# Altium schematic symbol library TimeCard_NIC.SCHLIB: 121 symbols (part 1 of 2)
Pins are listed as number, name and electrical type; pins without a type are passive.

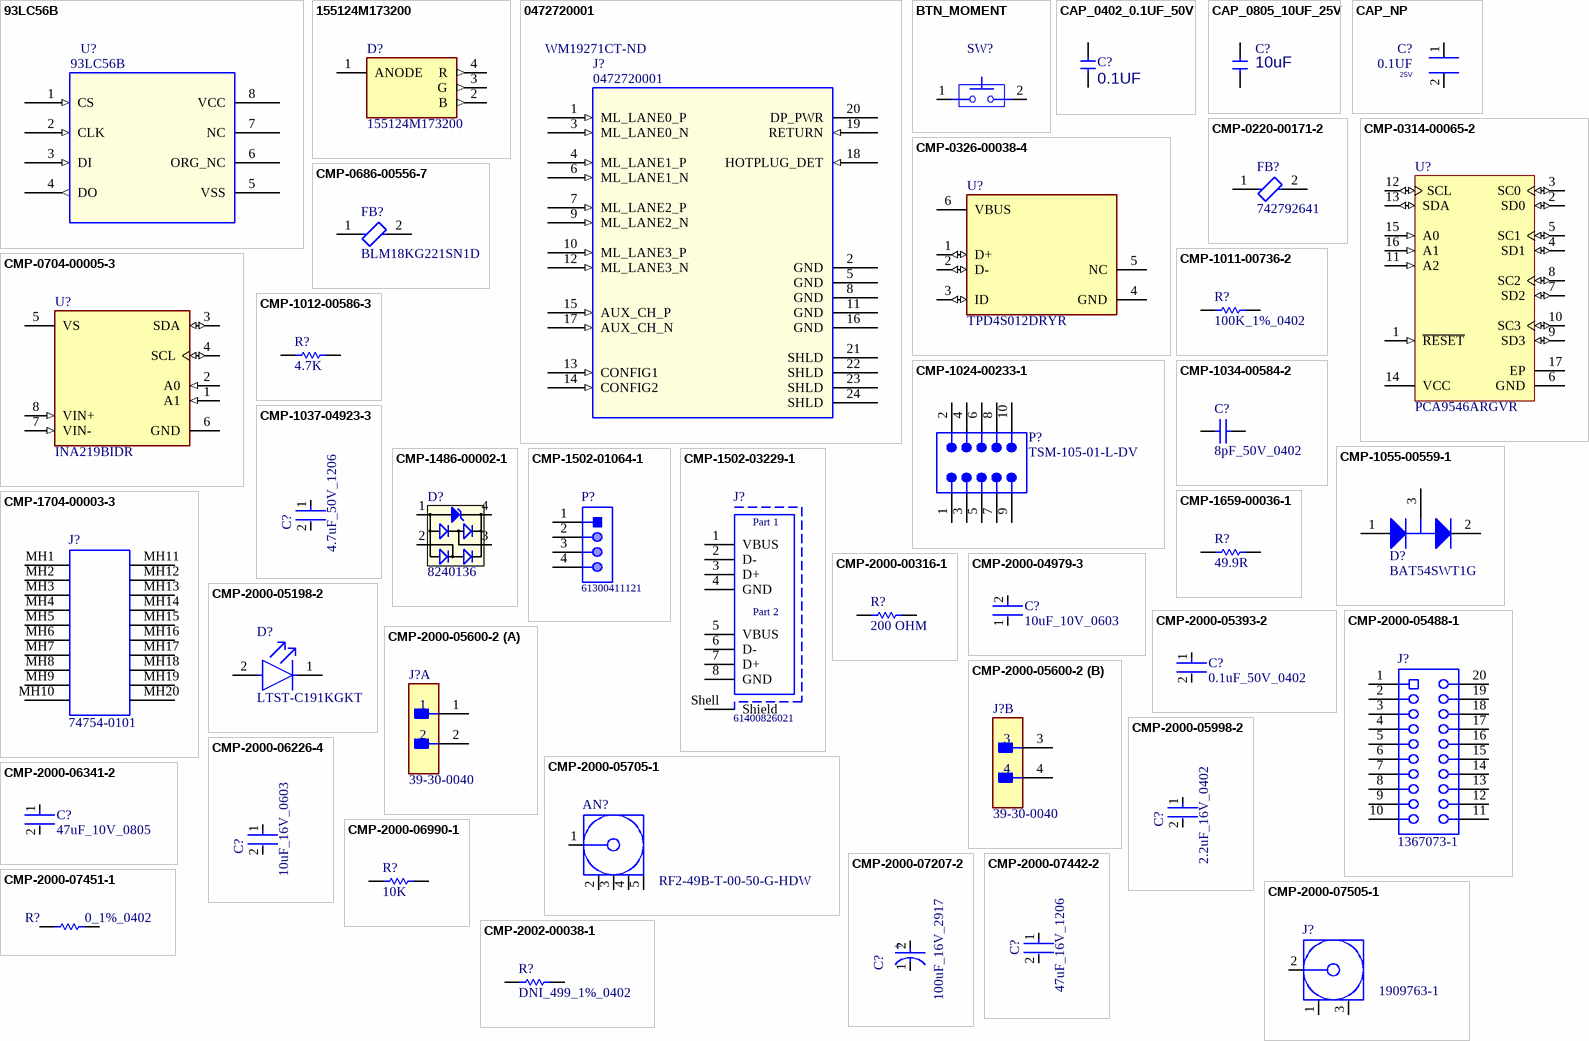
[diagram p0: symbols 93LC56B to CMP-2002-00038-1]

## 93LC56B
designator U?
IC EEPROM 2Kb 128x16-Bit Serial 2MHz 2.5V SOIC-8; Manufacturer PN: 93LC56B-I/SN; Manufacturer: MICROCHIP; Agile Part Number: ICS-00335-01; Barcode: 500495; PCB Footprint: SOIC8P127W390; ROHS: YES; Family: MEMORY; Part Type: MEMORY; CIP Link: http://xsjbrdwin1/CIP-E/Component/Index/All?pn=500495
footprint SOIC8P127W390
pins: 1 CS (in), 2 CLK (in), 3 DI (in), 4 DO (out), 5 VSS (power), 6 ORG_NC, 7 NC, 8 VCC (power)

## 155124M173200
designator D?
LED (Multiple); Manufacturer_Name: Wurth Elektronik; Datasheet Link: https://www.mouser.com/ds/2/445/155124M173200-1113601.pdf; Manufacturer_Part_Number: 155124M173200; Mouser Part Number: 710-155124M173200; Mouser Price/Stock: https://www.mouser.co.uk/ProductDetail/Wurth-Elektronik/155124M173200?qs=5aG0NVq1C4xPhoUU07x4gQ%3D%3D
footprint 155124M173200
pins: 1 ANODE (power), 2 B (out), 3 G (out), 4 R (out)

## 0472720001
designator J?  Supplier Part Number 1: WM19271CT-ND
Conn Rcpt DisplayPort Female RA 20 Pos 0.5mm P Black SMT; Agile Part Number: CON-00139-01; Manufacturer: MOLEX; EDMVersionID: 488745758; Barcode: 400070; PCB Footprint: CON_MOLEX_47272; Part Type: RECEPTACLE; CIP Link: http://xsjbrdwin1/CIP-E/Component/Index/All?pn=400070; Manufacturer PN: 0472720001; Supplier 1: Digi-Key
footprint CON_MOLEX_47272
pins: 1 ML_LANE0_P (in), 2 GND (power), 3 ML_LANE0_N (in), 4 ML_LANE1_P (in), 5 GND (power), 6 ML_LANE1_N (in), 7 ML_LANE2_P (in), 8 GND (power), 9 ML_LANE2_N (in), 10 ML_LANE3_P (in), 11 GND (power), 12 ML_LANE3_N (in), 13 CONFIG1 (in), 14 CONFIG2 (in), 15 AUX_CH_P (in), 16 GND (power), 17 AUX_CH_N (in), 18 HOTPLUG_DET (in), 19 RETURN (in), 20 DP_PWR (power), 21 SHLD (power), 22 SHLD (power), 23 SHLD (power), 24 SHLD (power)

## BTN_MOMENT
designator SW?, comment B3U-1000P  (value not drawn)
Switch SPST-NO Mom 50mA 12V 1.6mm H 1.5Nw SMT IP40; Manufacturer: OMRON; Agile Part Number: SWH-00003-01; EDMVersionID: 489329634; PCB Footprint: SW_OMRON_2P; Barcode: 440024; Manufacturer PN: B3U-1000P; CIP Link: http://xsjbrdwin1/CIP-E/Component/Index/All?pn=440024; Part Type: MOMENT
footprint SW_OMRON_2P
pins: 1 SW1, 2 SW2

## CAP_0402_0.1UF_50V
designator C?  value 0.1UF  (hidden comment: CAP_0402_0.1UF_50V)
CAP, CER, 0.1UF, 50V, 10%, X7R, AEC-Q200, 0402; MFG PART NUM: CGA2B3X7R1H104K050BB; VALENTIUM PART NUM: <VALENTIUM>; MFG NAME: TDK; MAXTEMP: 125C; MINTEMP: -55C; CATEGORY: CAP, CER; MODIFY DATE: 10/23/2013; SHEETPART: *; P1: 10%; OTHER: AEC-Q200; P2: 50V; P3: X7R; Size: 0402; DESC: CAP, CER, 0.1UF, 50V, 10%, X7R, AEC-Q200, 0402; Supplier 1: Digi-Key; Supplier Part Number 1: 445-6899-1-ND
footprint CAPC1005X06N (Chip Capacitor, 0402, 2-Leads, Body 1.00x0.50mm, IPC Medium Density)
pins: 1, 2

## CAP_0805_10UF_25V
designator C?  value 10uF  (hidden comment: CAP_0805_10UF_25V)
CAP, CER, 10.UF, 25V, 10%, X5R, 0805; MFG PART NUM: TMK212BBJ106KG-T; VALENTIUM PART NUM: <VALENTIUM>; MFG NAME: TAIYO YUDEN; MAXTEMP: 85C; MINTEMP: -55C; DESC: CAP, CER, 10.UF, 10V, 10%, X5R, 0805; MODIFY DATE: 10/23/2013; CATEGORY: CAP, CER; Date: 4/11/2006 3:37:28 PM; SHEETPART: *; P1: 10%; P2: 25V; P3: X5R; Size: 0805; Supplier 1: MOUSER; Supplier Part Number 1: 963-TMK212BBJ106KG-T
footprint CAPC2012X14N (Chip Capacitor, 0805, 2-Leads, Body 2.00x1.25mm, IPC Medium Density)
pins: 1, 2

## CAP_NP
designator C?, comment 0.1UF  Voltage: 25V
Cap Cer 100nF 10% 25V X5R 0402; Manufacturer PN: TMK105BJ104KV-F; Manufacturer: TAIYO YUDEN; Agile Part Number: CAP-00068-01; PCB Footprint: CAPC100X50X55; barcode: 100040; OWNER: 4001; ALT_SYMBOLS: CAPC100X50X55RND; PartType: CERAMIC; ROHS: Yes; PRICE: 0.01; Part Type: CERAMIC; Dielectric Type: X5R; CIP Link: http://xsjbrdwin1/CIP-E/Component/Index/All?pn=100040; Tolerance: 10%
footprint CAPC100X50X55
pins: 1, 2
1 alternate drawing of the same symbol

## CMP-0220-00171-2
designator FB?, comment 742792641
FERRITE BEAD 300 OHM 0603 1LN; Manufacturer: Wurth Electronics; Inductance: 18nH; Max DC Current: 2A; Number of Lines: 1; Test Frequency: 100MHz; Impedance: 300R; DC Resistance (DCR): 150mR; Tolerance: 25%; Case Code (Metric): 1608; Core Material: Ferrite; Length: 1.6mm; Lead Free: Lead Free; Series: WE-CBF; Min Operating Temperature: -55°C; RoHS Compliant: Yes; Case/Package: SMD/SMT; Material: Ferrite; Max Operating Temperature: 125°C; Termination: SMD/SMT; Packaging: Tape and Reel; Weight: 0.000141oz; Case Code (Imperial): 0603; Width: 0.8mm; Mount: Surface Mount; Max Current Rating: 2A; Package Quantity: 1; Depth: 0.8mm; Current Rating: 2A; Height: 0.8mm; Manufacturer Part Number: 742792641
footprint FP-742792641-MFG
footprint FP-742792641-IPC_C
footprint FP-742792641-IPC_B
footprint FP-742792641-IPC_A
pins: 1, 2

## CMP-0314-00065-2
designator U?, comment PCA9546ARGVR
4-Channel I2C and SMBus Multiplexer with Reset Functions, 2.3 to 5.5 V, -40 to 85 degC, 16-pin VQFN (RGV), Green (RoHS & no Sb/Br); Manufacturer: Texas Instruments; fSCLK(Max)(MHz): 100, 400; I2C Address: 1110 xxx; VCC(Min)(V): 2.3; 5V Tolerant I/O: Yes; Channel Width: 4; VCC(Max)(V): 5.5; tpd max(ns): 0.3, 1; Simultaneously Active Channels: 1 to 4; Max Frequency(kHz): 400; SubFamily: I2C Multiplexer, Switch; Mounting Technology: Surface Mount; ComponentLink2Description: Package Specification; DatasheetVersion: SCPS148E; PackageDescription: 16-Pin Plastic Quad Flat No-Lead, 4 x 4 mm Body, 0.65 mm Pitch, 2.16 x 2.16 mm Exposed Pad; PackageVersion: revF, Jun-2011; ComponentLink1URL: http://www.ti.com/general/docs/lit/getliterature.tsp?genericPartNumber=PCA9546A&fileType=pdf; Eco-Plan: Green (RoHS & no Sb/Br); Reset Input: Yes; Vcc range(V): 2.3 to 5.5; ComponentLink2URL: http://www.ti.com/litv/pdf/mpds178g; Open Drain I/O Type: Yes; PackageReference: RGV0016A; PartNumber: PCA9546ARGVR; ComponentLink1Description: Datasheet; Manufacturer Part Number: PCA9546ARGVR
footprint RGV0016A_V (QFN, 16-Leads, Body 4x4mm, Pitch 0.65mm, Thermal Pad 2.16x2.16mm, TI Recommended)
pins: 1 ~{RESET} (in) "Active low reset input. Connect to VCC through a pullup resistor, if not used.", 2 SD0 (io) "Serial data 0. Connect to VCC through a pullup resistor.", 3 SC0 (io) "Serial clock 0. Connect to VCC through a pullup resistor.", 4 SD1 (io) "Serial data 1. Connect to VCC through a pullup resistor.", 5 SC1 (io) "Serial clock 1. Connect to VCC through a pullup resistor.", 6 GND (power) "Ground", 7 SD2 (io) "Serial data 2. Connect to VCC through a pullup resistor.", 8 SC2 (io) "Serial clock 2. Connect to VCC through a pullup resistor.", 9 SD3 (io) "Serial data 3. Connect to VCC through a pullup resistor.", 10 SC3 (io) "Serial clock 3. Connect to VCC through a pullup resistor.", 11 A2 (in) "Address input 2. Connect directly to VCC or ground.", 12 SCL (io) "Serial clock line. Connect to VCC through a pullup resistor.", 13 SDA (io) "Serial data line. Connect to VCC through a pullup resistor.", 14 VCC (power) "Supply power", 15 A0 (in) "Address input 0. Connect directly to VCC or ground.", 16 A1 (in) "Address input 1. Connect directly to VCC or ground.", 17 EP "Exposed Pad"

## CMP-0326-00038-4
designator U?, comment TPD4S012DRYR
TVS DIODE 5.5V 6SON; Manufacturer: Texas Instruments; Breakdown Voltage: 24V; Interface: USB; ESD Protection: Yes; Peak Pulse Power: 60W; Number of Circuits: 4; Polarity: Unidirectional; Capacitance: 15pF; Test Current: 1mA; Working Voltage: 19V; Min Breakdown Voltage: 6V; Peak Pulse Current: 3A; Operating Supply Voltage: 950mV; Max Operating Temperature: 85°C; Packaging: Tape and Reel; Termination: SMD/SMT; Number of Pins: 6; Radiation Hardening: No; Width: 1.05mm; REACH SVHC: No SVHC; Lead Free: Lead Free; Depth: 1mm; Package Quantity: 5000; Length: 1.45mm; Direction: Unidirectional; Min Operating Temperature: -40°C; Number of Channels: 4; Max Power Dissipation: 60W; Height: 0.55mm; Manufacturer Part Number: TPD4S012DRYR
footprint FP-DRY0006A-MFG
pins: 1 D+ (io), 2 D- (io), 3 ID (io), 4 GND (power), 5 NC, 6 VBUS

## CMP-0686-00556-7
designator FB?, comment BLM18KG221SN1D
Chip Ferrite Bead, 0603, 220Ω @ 100MHz, 0.05Ω, 25%, 2.2A; Manufacturer: Murata; DC Resistance (DCR): 50mR; Number of Circuits: 1; Impedance: 220R; Current Rating: 2.2A; Material: Ferrite; Test Frequency: 100MHz; Depth: 0.8mm; Series: BLM18K; RoHS Compliant: Yes; Termination: SMD/SMT; Max Current Rating: 2.2A; Case Code (Metric): 1608; Radiation Hardening: No; Number of Pins: 2; Length: 1.6mm; Lead Free: Lead Free; Package Quantity: 1; Height: 0.8mm; Core Material: Ferrite; Inductor Type: FERRITE BEAD; Min Operating Temperature: -55°C; Case/Package: 0603; Case Code (Imperial): 0603; Number of Lines: 1; Packaging: Tape and Reel; REACH SVHC: No SVHC; Max Operating Temperature: 125°C; Military Standard: Not; DC Resistance-Max: 50mR; Width: 0.8mm; DC Current: 2.2A; Max DC Current: 2.2A; Tolerance: 25%; Weight: 7.1E-05oz; Manufacturer Part Number: BLM18KG221SN1D
footprint FP-BLM18-0_15-t0_8-IPC_B
footprint FP-BLM18-0_15-t0_8-MFG
footprint FP-BLM18-0_15-t0_8-IPC_A
footprint FP-BLM18-0_15-t0_8-IPC_C
pins: 1, 2

## CMP-0704-00005-3
designator U?, comment INA219BIDR
IC MONITOR PWR/CURR BIDIR 8-SOIC; Manufacturer: Texas Instruments; Min Supply Voltage: 3V; Common Mode Rejection Ratio: 100dB; Output Current: 10mA; Number of Amplifiers: 1; Accuracy: 0.5%; Supply Current: 1mA; Quiescent Current: 700uA; Bandwidth: 11kHz; Input Offset Voltage (Vos): 40uV; Max Supply Voltage: 5.5V; Packaging: Tape and Reel; REACH SVHC: No SVHC; Max Operating Temperature: 125°C; Number of Pins: 8; Lead Free: Lead Free; Package Quantity: 1; Radiation Hardening: No; Case/Package: SOIC; Min Operating Temperature: -40°C; Contact Plating: Gold; Series: Zero-Drift; Nominal Supply Current: 1mA; RoHS Compliant: Yes; Manufacturer Part Number: INA219BIDR
footprint FP-D0008A-MFG
footprint FP-D0008A-IPC_A
footprint FP-D0008A-IPC_C
footprint FP-D0008A-IPC_B
pins: 1 A1 (in), 2 A0 (in), 3 SDA (io), 4 SCL (io), 5 VS (power), 6 GND (power), 7 VIN- (in), 8 VIN+ (in)

## CMP-1011-00736-2
designator R?, comment 100K_1%_0402
Part Number: CRCW0402100KFKTD; Manufacturer: Vishay Dale; Manufacturer: Vishay; Manufacturer Part Number: CRCW0402100KFKED; Manufacturer Part Number: CRCW0402100KFKEE; Manufacturer: Yageo; Manufacturer Part Number: RC0402FR-07100KL; Manufacturer: Panasonic; Manufacturer Part Number: ERJ-2RKF1003X; Manufacturer: Bourns; Manufacturer Part Number: CR0402-FX-1003GLF; Manufacturer Part Number: CRCW0402100KFKTD
footprint RESC1005X40X25ML05T05 (Chip Resistor, 2-Leads, Body 1.00x0.50mm, IPC Low Density)
footprint RESC1005X40X25NL05T05 (Chip Resistor, 2-Leads, Body 1.00x0.50mm, IPC Medium Density)
footprint RESC1005X40X25LL05T05 (Chip Resistor, 2-Leads, Body 1.00x0.50mm, IPC High Density)
pins: 1, 2
1 alternate drawing of the same symbol

## CMP-1012-00586-3
designator R?, comment 4.7K
Precision Thick Film Chip Resistor, 4.7 KOhm, +/- 1%, -55 to 155 degC, 0603 (1608 Metric), RoHS, Tape and Reel ERJ-3EKF4701V; Manufacturer: Panasonic; Manufacturer: Vishay Dale; Manufacturer Part Number: CRCW06034K70FKTB; Manufacturer: Bourns; Manufacturer Part Number: CR0603-FX-4701ELF; Manufacturer: Yageo; Manufacturer Part Number: RC0603FR-074K7L; Manufacturer Part Number: CRCW06034K70FKTC; Manufacturer Part Number: CRCW06034K70FKEC; Manufacturer: Vishay; Manufacturer Part Number: CRCW06034K70FKEA; Manufacturer Part Number: CRCW06034K70FKTA; Manufacturer Part Number: CRCW06034K70FKEB; Resistance: 220 Ohm; Voltage Rating: 50 V; Elements: 4; Case\Package: 1205; Tolerance: 5%; Power Rating: 250 mW; PackageReference: 0603; Max Operating Temperature: 125 degC; REACH SVHC: No SVHC; Width: 0.063 inch; Length: 0.126 inch; Height: 0.024 inch; Mount: Surface Mount; Package Quantity: 1; DatasheetVersion: Apr-15; ComponentLink1Description: Manufacturer URL; Min Operating Temperature: -55 degC; Packaging: Tape and Reel; Radiation Hardening: No; ComponentLink2URL: http://industrial.panasonic.com/cdbs/www-data/pdf/RDA0000/AOA0000C86.pdf; Case Code (Metric): 3216; Pins: 8; Case Code (Imperial): 1206; Type (Resistor): Thick Film; RoHSCompliant: true; ComponentLink2Description: Datasheet; PackageDescription: 2-Pin Surface Mount Device, Body 1.6 x 0.85 mm; ComponentLink1URL: http://www.panasonic.com/; Manufacturer Part Number: ERJ-3EKF4701V
footprint RESC1608X55X30NL15T15 (Chip Resistor, 2-Leads, Body 1.75x0.95mm, IPC Medium Density)
footprint RESC1608X55X30ML15T15 (Chip Resistor, 2-Leads, Body 1.75x0.95mm, IPC Low Density)
footprint RESC1608X55X30LL15T15 (Chip Resistor, 2-Leads, Body 1.75x0.95mm, IPC High Density)
pins: 1, 2

## CMP-1024-00233-1
designator P?, comment TSM-105-01-L-DV
0.025" SQ Post Header, Surface Mount, Vertical, -55 to 125 degC, 2.54 mm Pitch, 10-Pin, Male, RoHS; Manufacturer: Samtec; Pitch: 2.54 mm; ComponentLink1URL: http://www.samtec.com; DatasheetVersion: F-214; ComponentLink3URL: http://www.samtec.com/documents/webfiles/cpdf/TSM-1XX-XX-XXX-XX-X-XXX-X-MKT.pdf; Temperature Range: -55 to 125 degC; PackageDescription: Double Row Gullwing ASM; PartNumber: TSM-105-01-L-DV; ComponentLink2URL: http://www.samtec.com/documents/webfiles/pdf/TSM.PDF; ComponentLink2Description: Datasheet; Mounting Technology: Surface Mount; PackageVersion: DJ, 4/1991; RoHS: True; ComponentLink3Description: Package Specification; PackageReference: TSM-105-01-X-DV; Orientation: Vertical; ComponentLink1Description: Manufacturer URL; Manufacturer Part Number: TSM-105-01-L-DV
footprint SMTC-TSM-105-01-X-DV (Double Row Gullwing ASM, 2x5 Pins, Vertical, 2.54mm Pitch, Male)
pins: 1, 2, 3, 4, 5, 6, 7, 8, 9, 10

## CMP-1034-00584-2
designator C?, comment 8pF_50V_0402
Part Number: GRM1555C1H8R0CA01D; Manufacturer: Murata; Manufacturer: TDK; Manufacturer Part Number: C1005C0G1H080C; Manufacturer Part Number: GRM1555C1H8R0CA01D
footprint CAPC1005X55X25NL05T10 (Chip Capacitor, 2-Leads, Body 1.00x0.50mm, IPC Medium Density)
footprint CAPC1005X55X25ML05T10 (Chip Capacitor, 2-Leads, Body 1.00x0.50mm, IPC Low Density)
footprint CAPC1005X55X25LL05T10 (Chip Capacitor, 2-Leads, Body 1.00x0.50mm, IPC High Density)
pins: 1, 2
1 alternate drawing of the same symbol

## CMP-1037-04923-3
designator C?, comment 4.7uF_50V_1206
Chip Multilayer Ceramic Capacitors for General Purpose, 1206, 4.7uF, X7R, 15%, 10%, 50V; Manufacturer: Murata; Manufacturer Part Number: GRM31CR71H475KA12L; Manufacturer: TDK; Manufacturer Part Number: C3216X5R1H475K; Height: 1.6mm; Voltage: 50V; Capacitance: 4.7uF; Lead Free: Lead Free; Max Operating Temperature: 125°C; Packaging: Tape and Reel; REACH SVHC: No SVHC; Voltage Rating: 50V; Mount: Surface Mount; Termination: SMD/SMT; Tolerance: 10%; Case/Package: 1206; Material: Ceramic; Depth: 1.6mm; Length: 3.2mm; Case Code (Metric): 3216; Voltage Rating (DC): 50V; Case Code (Imperial): 1206; Radiation Hardening: No; Width: 0.063inch; Thickness: 0.071inch; Package Quantity: 2000; Min Operating Temperature: -55°C; Dielectric: X7R
footprint FP-GRM31C-0_2-e0_3_0_8-IPC_C
footprint FP-GRM31C-0_2-e0_3_0_8-IPC_B
footprint FP-GRM31C-0_2-e0_3_0_8-IPC_A
footprint FP-GRM31C-0_2-e0_3_0_8-MFG
pins: 1, 2

## CMP-1055-00559-1
designator D?, comment BAT54SWT1G
Dual Series Schottky Barrier Diodes, 3-Pin SOT-323, Pb-Free, Tape and Reel; Manufacturer: On Semiconductor; Manufacturer: ON Semiconductor / Fairchild; trr Max (ns): 5; IFSM Max (A): 0.6; ComponentLink1URL: http://www.onsemi.com/; Mounting Technology: Surface Mount; ComponentLink1Description: Manufacturer URL; ComponentLink3URL: http://www.onsemi.com/pub_link/Collateral/419-04.PDF; RoHS: TRUE; PackageVersion: Rev. N, 11/2008; Packing: Tape and Reel; PackageReference: SOT-323-3-419-04; ComponentLink2URL: http://www.onsemi.cn/pub_link/Collateral/BAT54SWT1-D.PDF; ComponentLink3Description: Package Specification; PackageDescription: 3-Pin Small Outline Transistor, Body 2 x 1.25 mm, Pitch 0.65 mm; ComponentLink2Description: Datasheet; PartNumber: BAT54SWT1G; DatasheetVersion: Rev. 10; Configuration: Dual; Manufacturer Part Number: BAT54SWT1G
footprint ONSC-SOT-323-3-419-04_V (SOT23, 3-Leads, Body 2x1.25mm, Pitch 0.65mm)
pins: 1 A, 2 K, 3 K/A

## CMP-1486-00002-1
designator D?, comment 8240136
TVS Diode WE-TVS-HS, VRWM=3.3V; Manufacturer: Wuerth Elektronik; Manufacturer: Wurth Electronics; Reverse Stand Off Voltage: 3.3V; PartNumber: 8240136; ComponentLink1Description: Manufacturer URL; PackageReference: SOT143-4L; ComponentLink1URL: http://www.we-online.com; ComponentLink2Description: Datasheet; ComponentLink2URL: http://katalog.we-online.de/kataloge/eisos/media/pdf/8240136.pdf; Manufacturer Part Number: 8240136
footprint SOT143-4L (SOT143-4L, 4-Leads, Body 2.95x2.4mm, Pitch 1.70/1.90mm)
pins: 1 GND, 2 I/O1, 3 I/O2, 4 VDD

## CMP-1502-01064-1
designator P?, comment 61300411121
THT Vertical Pin Header WR-PHD, Pitch 2.54 mm, Single Row, 4 pins; Manufacturer: Wurth Elektronik; Manufacturer: Wurth Electronics; Withstanding Voltage: 500VAC; Rated Current: 3A; Working Voltage: 250VAC; Pin Number: 4; Gender: Male; Contact Resistance: 20mOhm; Pitch: 2.54mm; Manufacturer URL: http://www.we-online.de; Operating Temperature: -40to105degC; Packaging: Bag; Mounting Technology: THT; Package Reference: 61300411121; Datasheet URL: https://katalog.we-online.de/em/datasheet/6130xx11121.pdf; Publisher: WurthElektronik; Part Number: 61300411121; Row Number: Single; Orientation: Vertical; Manufacturer Part Number: 61300411121
footprint 61300411121 (Pin Header, pitch 2.54 mm, THT, Vertical, single row, 4p)
pins: 1, 2, 3, 4

## CMP-1502-03229-1
designator J?, comment 61400826021
USB 2.0 Type A Receptacle WR-COM, Stacked Horizontal, THT; Manufacturer: Wurth Elektronik; Manufacturer: Wurth Electronics; Contact Resistance: 20mOhm; Rated Current: 1.5A; Working Voltage: 30VAC; Connector Type: USB2.0TypeA; Packaging: Tray; Package Reference: 61400826021; Mounting Technology: THT; Datasheet URL: https://katalog.we-online.de/em/datasheet/61400826021.pdf; Operating Temperature: -40to105degC; Gender: Receptacle; Orientation: StackedHorizontal; Part Number: 61400826021; Publisher: WurthElektronik; Manufacturer URL: http://www.we-online.de; Manufacturer Part Number: 61400826021
footprint 61400826021 (USB 2.0 Type A Horizontal Dual Stacked)
pins: 1 VBUS, 2 D-, 3 D+, 4 GND, 5 VBUS, 6 D-, 7 D+, 8 GND, Shell Shield
text: Part 1; Part 2

## CMP-1659-00036-1
designator R?, comment 49.9R
General Purpose Chip Resistor, 49.9 Ohm, +/- 1%, -55 to 155 degC, 0603 (1608 Metric), RoHS, Tape and Reel; Manufacturer: Yageo; Manufacturer Part Number: RC0603FR-0749R9L; Max Supply Voltage: 3.63 V; Case\Package: LQFP; Interface: SPI; Min Supply Voltage: 2.97 V; PackageReference: 0603; Packaging: Tray; ComponentLink2Description: Datasheet; ComponentLink1Description: Manufacturer URL; ComponentLink2URL: https://datasheet.ciiva.com/11808/0900766b80f96399-11808223.pdf; RoHSCompliant: true; Max Operating Temperature: 85 degC; ComponentLink1URL: http://www.yageo.com/; PackageDescription: 2-Pin Surface Mount Device, Body 1.6 x 0.8 mm; DatasheetVersion: Rev. 4, 04/2009; Min Operating Temperature: -40 degC; Package Quantity: 250; Pins: 48
footprint RESC1608X55X25NL10T15 (Chip Resistor, 2-Leads, Body 1.70x0.90mm, IPC Medium Density)
footprint RESC1608X55X25ML10T15 (Chip Resistor, 2-Leads, Body 1.70x0.90mm, IPC Low Density)
footprint RESC1608X55X25LL10T15 (Chip Resistor, 2-Leads, Body 1.70x0.90mm, IPC High Density)
pins: 1, 2

## CMP-1704-00003-3
designator J?, comment 74754-0101
SFP+ Cage, Single Port, Height 10.85 mm, Tail Height 3.05 mm, -40 to 85 degC, RoHS, Tray; Manufacturer: Molex; RoHSCompliant: True; ComponentLink3URL: http://www.molex.com/pdm_docs/sd/747540101_sd.pdf; Width: 49 mm; Height: 10.85 mm; Mounting Technology: Through Hole; ComponentLink2Description: Datasheet; ComponentLink3Description: Package Specification; DatasheetVersion: Rev. Jul-15; Package Quantity: 1152; PackageDescription: SFP+ Cage, Single Port, Height 10.85 mm, Tail Height 3.05 mm; Radiation Hardening: No; PackageVersion: Rev. J, 02/2015; ComponentLink1Description: Manufacturer URL; PartNumber: 74754-0101; ComponentLink1URL: http://www.molex.com/; Packaging: Tray; Length: 15.9 mm; ComponentLink2URL: http://www.molex.com/webdocs/datasheets/pdf/en-us/0747540101_IO_CONNECTORS.pdf; Manufacturer Part Number: 74754-0101
footprint MOLX-74754-0101_V (SFP+ Cage, 1-Port, Body 49x15.9mm)
pins: MH1, MH2, MH3, MH4, MH5, MH6, MH7, MH8, MH9, MH10, MH11, MH12, MH13, MH14, MH15, MH16, MH17, MH18, MH19, MH20

## CMP-2000-00316-1
designator R?, comment 200 OHM
ERJ-3EKF2000V; Manufacturer: Panasonic; Part Number: ERJ-3EKF2000V; Manufacturer Part Number: ERJ-3EKF2000V
footprint RESC1608X55X30NL15T15 (Chip Resistor, 2-Leads, Body 1.60x0.80mm, IPC Medium Density)
footprint RESC1608X55X30ML15T15 (Chip Resistor, 2-Leads, Body 1.60x0.80mm, IPC Low Density)
footprint RESC1608X55X30LL15T15 (Chip Resistor, 2-Leads, Body 1.60x0.80mm, IPC High Density)
pins: 1, 2
1 alternate drawing of the same symbol

## CMP-2000-04979-3
designator C?, comment 10uF_10V_0603
Multilayer Ceramic Capacitors 10μF ±10% 10V X5R SMD 0603; Manufacturer: TDK; Manufacturer Part Number: C1608X5R1A106K080AC; Capacitance: 10uF; Dielectric Material: Ceramic; Construction: Flat; Height: 0.8mm; Thickness: 0.035inch; Case Code (Metric): 1608; Radiation Hardening: No; Number of Pins: 2; Voltage Rating (DC): 10V; Depth: 0.8mm; Voltage: 10V; RoHS Compliant: Yes; Voltage Rating: 10V; Package Quantity: 1; Resistor Type: Ceramic; Termination: SMD/SMT; Lead Free: Lead Free; REACH SVHC: No SVHC; Tolerance: 10%; Mount: Surface Mount; Series: C; Packaging: Tape and Reel; Width: 0.8mm; Dielectric: X5R; Weight: 7.1E-05oz; Length: 1.6mm; Max Operating Temperature: 85°C; Case Code (Imperial): 0603; Case/Package: 0603; Min Operating Temperature: -55°C
footprint FP-C1608-080-0_1-MFG
footprint FP-C1608-080-0_1-IPC_C
footprint FP-C1608-080-0_1-IPC_A
footprint FP-C1608-080-0_1-IPC_B
pins: 1, 2

## CMP-2000-05198-2
designator D?, comment LTST-C191KGKT
LED GREEN CLEAR SMD; Manufacturer: Vishay Lite-On; Max Power Dissipation: 75mW; Forward Current: 30mA; Reverse Voltage: 5V; Lens Color: Colorless; Forward Voltage: 2V; Dominant Wavelength: 571nm; Number of LEDs: 1; Viewing Angle: 130°; Lens Style: Rectangular; Test Current: 20mA; Luminous Intensity: 35mcd; Wavelength: 574nm; Width: 0.8mm; Case Code (Imperial): 0603; Number of Pins: 2; Lead Free: Lead Free; Packaging: Tape and Reel; Package Quantity: 1; Min Operating Temperature: -55°C; Case/Package: 0603; Length: 1.6mm; Power Dissipation: 75mW; Depth: 0.8mm; Radiation Hardening: No; Mount: Surface Mount; Max Operating Temperature: 85°C; Color: Green; Power Rating: 75mW; Height: 0.55mm; Illumination Color: Green; Case Code (Metric): 1608; Lens Transparency: Clear; Number of Elements: 1; Manufacturer Part Number: LTST-C191KGKT
footprint FP-LTST-C191KGKT-MFG
pins: 1 C, 2 A

## CMP-2000-05393-2
designator C?, comment 0.1uF_50V_0402
Multilayer Ceramic Capacitors 100nF ±10% 50V X7R SMD 0402; Manufacturer: TDK; Manufacturer Part Number: C1005X7R1H104K050BB; Voltage: 50V; Dielectric Material: Ceramic; Min Operating Temperature: -55°C; Depth: 0.5mm; Radiation Hardening: No; RoHS Compliant: Yes; Voltage Rating (DC): 50V; Lead Free: Lead Free; Resistor Type: Ceramic; Height: 0.5mm; Dielectric: X7R; Thickness: 0.022inch; Case/Package: 0402; Case Code (Metric): 1005; Termination: SMD/SMT; Capacitance: 100nF; Packaging: Tape and Reel; Max Operating Temperature: 125°C; Mount: Surface Mount; Package Quantity: 1; Width: 0.02inch; Weight: 2.3E-05oz; Voltage Rating: 50V; Tolerance: 10%; Construction: Flat; Case Code (Imperial): 0402; Length: 1mm; REACH SVHC: No SVHC; Series: C
footprint FP-C1005-050-0_05-IPC_C
footprint FP-C1005-050-0_05-IPC_A
footprint FP-C1005-050-0_05-IPC_B
footprint FP-C1005-050-0_05-MFG
pins: 1, 2

## CMP-2000-05488-1
designator J?, comment 1367073-1
Female Connector, Pitch 0.8 mm, 2 x 10 Position, Height 5.4 mm, -55 to 85 degC, RoHS, Tape and Reel; Manufacturer: TE Connectivity; Product Training Modules: HighSpeedPluggableI/OSolutions; 3D Model: 1367073-1.pdf; Connector Type: SFP; Other Names: A97430DKR; Mating Products: 516-2084-ND / -TXRXOPTICALSFF1.25GBDISCSI; Dynamic Catalog: SFPConnectors; Featured Product: HighSpeedPluggableI-OSolutions; Connector Style: Receptacle; Associated Product: A103997CT-ND / -CONNSFPCAGESINGLEW/OPIPE / A103997TR-ND / -CONNSFPCAGESINGLEW/OPIPE / 1367645-3-ND / -CONNCAGE&HEATSINKSGLPORTTIN / 1367645-2-ND / -CONNCAGE&HEATSINKSGLPORTTIN / 1888424-1-ND / -CONNCAGE1X2SFPENHANCEDEMI / 1367643-1-ND / -CONNCAGESNGLPORTDBLSIDETIN / 1489962-1-ND / -CONNSFPCAGESINGLEW/OPIPE / 1367645-1-ND / -CONNCAGE&HEATSINKSGLPORTTIN / A99375-ND / -CONNSFPCAGE1X4PIN-IN-PASTE / A97412CT-ND / -CONNSFPLOWERCAGEPCB / More...; Number of Positions: 20; Package Reference: 1367073-1; Package Description: Female Connector, Pitch 0.8 mm, 2 x 10 Position, Height 5.4 mm; RoHS Information: 1367073-1StatementofCompliance; Contact Finish: Gold; Datasheet URL: http://www.te.com/commerce/DocumentDelivery/DDEController?Action=showdoc&DocId=Customer+Drawing%7F1367073%7FK%7Fpdf%7FEnglish%7FENG_CD_1367073_K.pdf%7F1367073-1; Datasheet Version: Rev. K, 12/2012; Contact Finish Thickness: 15µin(0.38µm); Category: Connectors,Interconnects; Mounting Type: SurfaceMount,RightAngle; Mounting Technology: SurfaceMount; Packaging: Digi-Reel®; Manufacturer URL: http://www.te.com/; Family: PluggableConnectors; Standard Package: 1; Termination: Solder; Manufacturer Part Number: 1367073-1
footprint TECO-1367073-1_V (Connector, 20-Leads, Body 11.2x7.5mm, Pitch 0.8mm)
pins: 1, 2, 3, 4, 5, 6, 7, 8, 9, 10, 11, 12, 13, 14, 15, 16, 17, 18, 19, 20

## CMP-2000-05600-2
designator J?, comment 39-30-0040
CONN HEADER R/A 4POS 4.2MM; Manufacturer: Molex; Current Rating: 13A; Voltage Rating: 600V; Number Of Contacts: 4; Standoff Height: 0.4mm; Conn Orientation: Right Angle; Conn Gender: Male; Device Class L1: Connectors; Pitch: 4.2mm; Package: 39-30-0040; Octopart: https://octopart.com/39-30-0040-molex-277428; Mouser Description: Headers & Wire Housings 4 CKT R/A HEADER; Temperature Range High: +105°C; Number Of Rows: 2; ComponentLink2Description: Datasheet; ComponentLink2URL: https://www.molex.com/webdocs/datasheets/pdf/en-us/0039300040_PCB_HEADERS.pdf; Manufacturer Part Number: 39-30-0040; Contact Material: Gold,Nickel; Digikey Description: CONN HEADER R/A 4POS 4.2MM; Temperature: -40°C to +105°C; Automotive: No; Device Class L2: Headers and Wire Housings; RoHS: TRUE; Lead Free: Yes; Device Class L3: unset; Category: Conn; Footprint Url: https://www.molex.com/pdm_docs/sd/039300040_sd.pdf; Temperature Range Low: -40°C
footprint FP-39-30-0040-MFG
part A pins: 1, 2
part B pins: 3, 4

## CMP-2000-05705-1
designator AN?, comment RF2-49B-T-00-50-G-HDW
Coaxial connector, 50 Ohm, -65 to 165 degC, 5-Pin THD, RoHS, Bulk; Manufacturer: Amphenol; Manufacturer: Amphenol RF; Manufacturer Part Number: 901-143-6RFX; Catalog Drawings: 901-143-6RFXMountingHole; 3D Model: 901-143-6RFX.igs; Body Material: Brass; Connector Type: Jack,FemaleSocket; Shield Termination: Solder; Other Names: 901-143-6-RFX9011436RFXARFX1232; Online Catalog: SMA,RFX; Frequency - Max: 18GHz; Body Finish: Gold; Dielectric Material: Polytetrafluoroethylene(PTFE); Center Contact Material: BerylliumCopper; Impedance: 50Ohm; Connector Style: SMA; Mounting Technology: ThroughHole; Mounting Type: ThroughHole,RightAngle; Cable Group: -; Series: -; Package Description: 5-Pin Through Hole Device, Body 7 x 7 mm, Pitch 2.54 mm; Package Reference: 901-143-6RFX; Voltage Rating: -; Standard Package: 1; Fastening Type: Threaded; Housing Color: Gold; Datasheet URL: http://www.amphenolrf.com/downloads/dl/file/id/2712/product/3102/901_143_6rfx_customer_drawing.pdf; Family: CoaxialConnectors(RF); Contact Termination: Solder; Manufacturer URL: http://www.amphenol.com/; Operating Temperature: -65°C~165°C; Category: Connectors,Interconnects; Packaging: Bulk; Features: -; Center Contact Plating: Gold; Datasheet Version: Rev. C, 06/2010; Ingress Protection: -
footprint AMPH-901-143-6RFX_V (THD, 5-Leads, Body 7x7mm, Pitch 2.54mm)
pins: 1, 2, 3, 4, 5

## CMP-2000-05998-2
designator C?, comment 2.2uF_16V_0402
Multilayer Ceramic Capacitors 2.2μF ±10% 16V X5R SMD 0402; Manufacturer: TDK; Manufacturer Part Number: C1005X5R1C225K050BC; Capacitance: 2.2uF; REACH SVHC: No SVHC; Series: C; Termination: SMD/SMT; Case Code (Imperial): 0402; Depth: 0.5mm; Mount: Surface Mount; Width: 0.02inch; Package Quantity: 1; Dielectric Material: Ceramic; Length: 1mm; Packaging: Tape and Reel; Case Code (Metric): 1005; RoHS Compliant: Yes; Dielectric: X5R; Max Operating Temperature: 85°C; Lead Free: Lead Free; Weight: 2.3E-05oz; Thickness: 0.022inch; Voltage Rating (DC): 16V; Tolerance: 10%; Voltage Rating: 16V; Resistor Type: Ceramic; Height: 0.5mm; Case/Package: 0402; Min Operating Temperature: -55°C
footprint FP-C1005-050-0_05-IPC_A
footprint FP-C1005-050-0_05-MFG
footprint FP-C1005-050-0_05-IPC_C
footprint FP-C1005-050-0_05-IPC_B
pins: 1, 2

## CMP-2000-06226-4
designator C?, comment 10uF_16V_0603
Multilayer Ceramic Capacitor 10uF 16V X5R 20% SMD 0603 T/R; Manufacturer: Taiyo Yuden; Manufacturer Part Number: EMK107BBJ106MA-T; Packaging: Tape and Reel; Construction: Flat; Height: 0.8mm; Max Operating Temperature: 85°C; Dielectric: X5R; Case Code (Metric): 1608; Voltage Rating (DC): 16V; Width: 0.031inch; Voltage Rating: 16V; Length: 0.063inch; RoHS Compliant: Yes; Halogen Free: Halogen Free; Case Code (Imperial): 0603; Capacitance: 10uF; Mount: Surface Mount; Thickness: 0.031inch; Tolerance: 20%; Min Operating Temperature: -55°C; Series: M; Termination: SMD/SMT; Case/Package: 0603; Package Quantity: 1
footprint FP-0603-L_1_6_0_2-W_0_8_0-MFG
footprint FP-0603-L_1_6_0_2-W_0_8_0-IPC_B
footprint FP-0603-L_1_6_0_2-W_0_8_0-IPC_C
footprint FP-0603-L_1_6_0_2-W_0_8_0-IPC_A
pins: 1, 2

## CMP-2000-06341-2
designator C?, comment 47uF_10V_0805
Chip Multilayer Ceramic Capacitors for General Purpose, 0805, 47uF, X5R, 15%, 20%, 10V; Manufacturer: Murata; Manufacturer Part Number: GRM21BR61A476ME15L; Dissipation Factor: 0.035%; Length: 2mm; Voltage Rating: 10V; Mount: Surface Mount; Width: 0.049inch; Voltage Rating (DC): 10V; Lead Free: Lead Free; REACH SVHC: No SVHC; Termination: SMD/SMT; Case/Package: 0805; Dielectric: X5R; Capacitance: 47uF; Packaging: Tape and Reel; Max Operating Temperature: 85°C; Tolerance: 20%; Thickness: 0.057inch; Dielectric Material: Ceramic; Min Operating Temperature: -55°C; Height: 1.25mm; Case Code (Imperial): 0805; Case Code (Metric): 2012; Depth: 1.25mm; Voltage: 10V
footprint FP-GRM21B-0_2-e0_2_0_7-IPC_A
footprint FP-GRM21B-0_2-e0_2_0_7-IPC_B
footprint FP-GRM21B-0_2-e0_2_0_7-IPC_C
footprint FP-GRM21B-0_2-e0_2_0_7-MFG
pins: 1, 2

## CMP-2000-06990-1
designator R?, comment 10K
Chip Resistor, 10 KOhm, +/- 1%, 0.1 W, -55 to 155 degC, 0603 (1608 Metric), RoHS, Tape and Reel RMCF0603FT10K0; Manufacturer: Stackpole-Electronics-Inc.; Manufacturer: Stackpole Electronics; Temperature Coefficient: ±100ppm/°C; Power (Watts): 0.1W,1/10W; Package / Case: 0603(1608Metric); Datasheet Version: 01/2017; Resistance (Ohms): 10k; Features: AutomotiveAEC-Q200; Packaging: CutTape(CT); Series: RMCF; Height: 0.022"(0.55mm); Tolerance: ±1%; Manufacturer URL: https://www.seielect.com/; Datasheet URL: https://www.seielect.com/Catalog/SEI-RMCF_RMCP.pdf; Supplier Device Package: 0603; Number of Terminations: 2; Family: ChipResistor-SurfaceMount; Package Reference: 0603; Size / Dimension: 0.061"Lx0.031"W(1.55mmx0.80mm); Mounting Technology: SurfaceMount; Package Description: 2-Pin Surface Mount Device, Body 1.55 x 0.8 mm; Operating Temperature: -55°C~155°C; Composition: ThickFilm; Category: Resistors; Manufacturer Part Number: RMCF0603FT10K0
footprint RESC1608X55X30LL15T20 (Chip Resistor, 2-Leads, Body 1.7x0.95mm, IPC High Density)
footprint RESC1608X55X30ML15T20 (Chip Resistor, 2-Leads, Body 1.7x0.95mm, IPC Low Density)
footprint RESC1608X55X30NL15T20 (Chip Resistor, 2-Leads, Body 1.7x0.95mm, IPC Medium Density)
pins: 1, 2

## CMP-2000-07207-2
designator C?, comment 100uF_16V_2917
CAP TANT 100UF 10% 16V 2917; Manufacturer: KEMET; Manufacturer Part Number: T495D107K016ATE125; Life (Hours): 2000Hour; ESR (Equivalent Series Resistance): 125mR; Polarity: Polar; Dielectric Material: Tantalum; Dissipation Factor: 8%; Capacitance: 100uF; Radiation Hardening: No; RoHS Compliant: Yes; Length: 7.3mm; Features: General Purpose; Packaging: Tape and Reel; Package Quantity: 1; Weight: 0.023634oz; Voltage Rating: 16V; Width: 0.169inch; Case/Package: 2917; Mount: Surface Mount; Voltage: 16V; Min Operating Temperature: -55°C; Tolerance: 10%; REACH SVHC: No SVHC; Height - Seated (Max): 0.122inch; Number of Pins: 2; Construction: Flat; Depth: 4.3mm; Series: T495; Max Operating Temperature: 125°C; Failure Rate: 0.001%; Termination: SMD/SMT; Voltage Rating (DC): 16V; Case Code (Imperial): 2917; Case Code (Metric): 7343; Height: 2.8mm
footprint FP-T495D107K016ATE125-MFG
pins: 1 C, 2 A
text: +

## CMP-2000-07442-2
designator C?, comment 47uF_16V_1206
Multilayer Ceramic Capacitors 47uF ±20% 16V X5R SMD 1206; Manufacturer: TDK; Manufacturer Part Number: C3216X5R1C476M160AB; Resistor Type: Ceramic; Width: 0.063inch; Case Code (Imperial): 1206; Radiation Hardening: No; Thickness: 0.071inch; Dielectric: X5R; Weight: 0.000571oz; Termination: SMD/SMT; Dielectric Material: Ceramic; Min Operating Temperature: -55°C; Depth: 1.6mm; Case Code (Metric): 3216; Max Operating Temperature: 85°C; RoHS Compliant: Yes; REACH SVHC: No SVHC; Mount: Surface Mount; Lead Free: Lead Free; Height: 1.6mm; Length: 3.2mm; Tolerance: 20%; Voltage Rating (DC): 16V; Capacitance: 47uF; Package Quantity: 1; Construction: Flat; Packaging: Tape and Reel; Series: C; Case/Package: 1206; Voltage Rating: 16V
footprint FP-C3216-160-0_2-MFG
footprint FP-C3216-160-0_2-IPC_B
footprint FP-C3216-160-0_2-IPC_C
footprint FP-C3216-160-0_2-IPC_A
pins: 1, 2

## CMP-2000-07451-1
designator R?, comment 0_1%_0402
Chip Resistor, 0 Ohm, 0.1 W, -55 to 155 degC, 0402 (1005 Metric), RoHS, Tape and Reel; Manufacturer: Panasonic; Manufacturer Part Number: ERJ-2GE0R00X; Voltage Rating (DC): 50V; Temperature Coefficient: 600ppm/��C; Max Power Dissipation: 100mW; Resistance: 0mOhm; Tolerance: 5%; Number of Terminations: 2; Mount: SurfaceMount; Height: 0.35mm; Packaging: TapeandReel; Contact Plating: Tin; Manufacturer URL: http://www.panasonic.com/; Composition: ThickFilm; Max Operating Temperature: 155degC; REACH SVHC: NoSVHC; Case/Package: 0402; Package Reference: 402; Depth: 0.5mm; Package Description: 2-Pin Surface Mount Device, Body 1 x 0.5 mm; Datasheet URL: https://industrial.panasonic.com/cdbs/www-data/pdf/RDA0000/AOA0000C301.pdf; RoHSCompliant: True; Case Code (Imperial): 0402; Military Standard: Not; Min Operating Temperature: -55degC; Power Rating: 100mW; Datasheet Version: 03/2015; Length: 1mm; Case Code (Metric): 1005; Termination: SMD/SMT; Mounting Technology: SurfaceMount; Voltage Rating: 50V; Width: 0.02inch; Package Quantity: 1; Lead Free: LeadFree; Radiation Hardening: No
footprint RESC1005X40X25LL05T05 (Chip Resistor, 2-Leads, Body 1.05x0.55mm, IPC High Density)
footprint RESC1005X40X25ML05T05 (Chip Resistor, 2-Leads, Body 1.05x0.55mm, IPC Low Density)
footprint RESC1005X40X25NL05T05 (Chip Resistor, 2-Leads, Body 1.05x0.55mm, IPC Medium Density)
pins: 1, 2

## CMP-2000-07505-1
designator J?, comment 1909763-1
Ultra Miniature Coaxial Connector Jack, 60 V, 50 Ohm, -40 to 90 degC, RoHS, Tape and Reel; Manufacturer: TE Connectivity; Manufacturer: TE Connectivity AMP; Gender: Female; PCB Mounting Orientation: Vertical; Body Material: LiquidCrystalPolymer; Case\/Package: SMD/SMT; Impedance: 50Ohm; Max Frequency: 6GHz; Body Plating: Gold; Dielectric Material: Polymer; Orientation: Straight; Mount: SurfaceMount; Length: 3mm; Packaging: TapeandReel; Connector Type: Jack; Lead Free: LeadFree; Package Quantity: 1; Termination: SMD/SMT; Contact Material: CopperAlloy; Fastening Type: Pull; RoHSCompliant: true; Max Operating Temperature: 90degC; Datasheet URL: http://www.te.com/commerce/DocumentDelivery/DDEController?Action=srchrtrv&DocNm=1909763&DocType=Customer+Drawing&DocLang=English; Contact Plating: Gold; Mounting Technology: SurfaceMount; Package Reference: TECO-1909763-1; Insulation Material: Thermoplastic; Min Operating Temperature: -40degC; Manufacturer URL: http://www.te.com/; ELV: Compliant; Datasheet Version: Rev. B2, 11/2015; Radiation Hardening: No; Package Description: 3-Pin Surface Mount Device, Body 2.6 x 2.6 mm; Housing Colour: Beige; Manufacturer Part Number: 1909763-1
footprint TECO-1909763-1_V (SMD, 3-Leads, Body 2.6x2.6mm, Height 1.25mm)
pins: 1, 2, 3

## CMP-2002-00038-1
designator R?, comment DNI_499_1%_0402  (no BOM)
Manufacturer: Vishay Dale; Part Number: CRCW0402499RFKTD; Manufacturer Part Number: CRCW0402499RFKTD
footprint RESC1005X40X25LL05T05 (Chip Resistor, 2-Leads, Body 1.00x0.50mm, IPC High Density)
footprint RESC1005X40X25NL05T05 (Chip Resistor, 2-Leads, Body 1.00x0.50mm, IPC Medium Density)
footprint RESC1005X40X25ML05T05 (Chip Resistor, 2-Leads, Body 1.00x0.50mm, IPC Low Density)
pins: 1, 2
1 alternate drawing of the same symbol

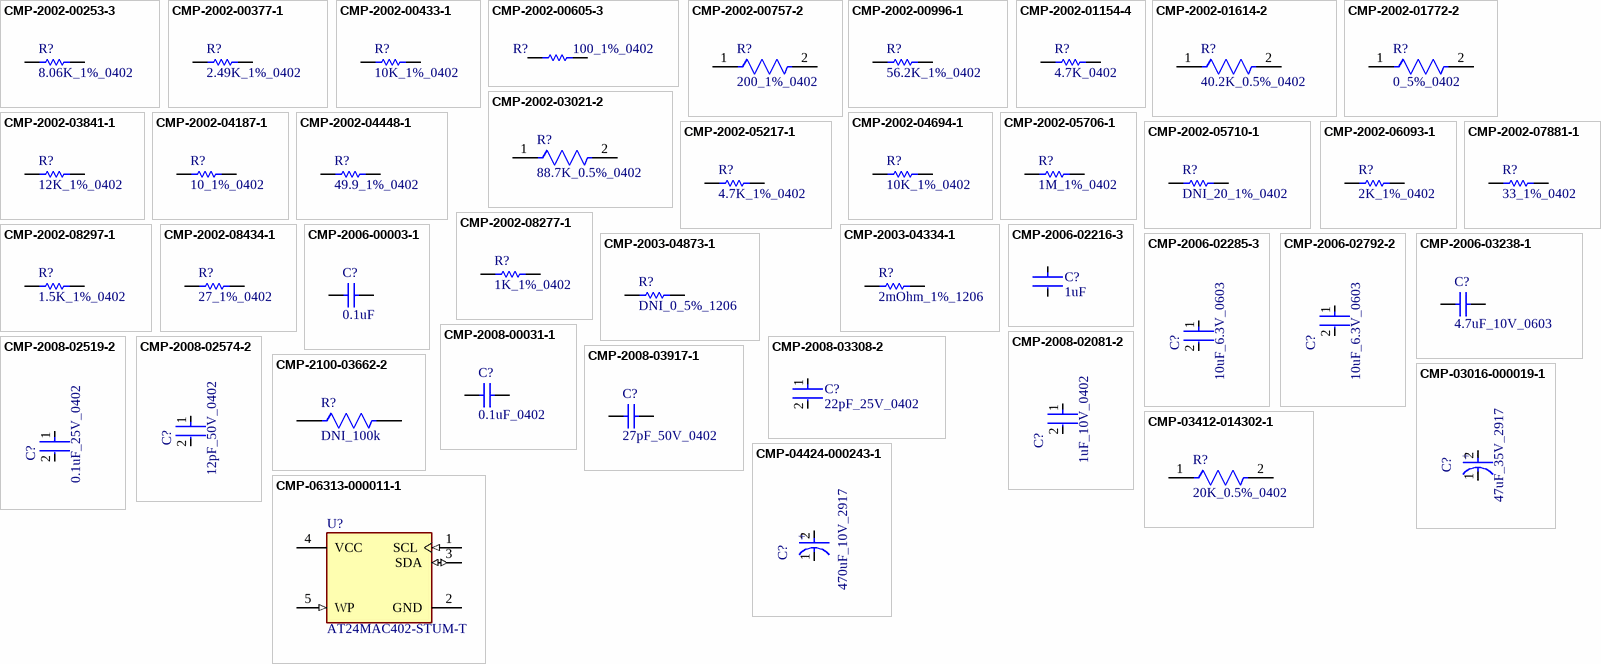
[diagram p1: symbols CMP-2002-00253-3 to CMP-06313-000011-1]

## CMP-2002-00253-3
designator R?, comment 8.06K_1%_0402
Chip Resistor, 8.06 KOhm, +/- 1%, 63 mW, -55 to 155 degC, 0402 (1005 Metric), RoHS, Tape and Reel; PartNumber: CRCW04028K06FKED; Manufacturer: Basic Passives; Manufacturer: Vishay Dale; Case\/Package: 0402; Power Rating: 63 mW; Voltage Rating: 50 V; PackageReference: 0402; Radiation Hardening: No; Package Quantity: 10000; Height: 0.35 mm; Packaging: Tape and Reel; Mount: Surface Mount; Length: 1 mm; Weight: 2.3E-05oz; Case Code (Metric): 1005; DatasheetVersion: 06/2012; Pins: 2; Min Operating Temperature: -55 degC; Case Code (Imperial): 0402; REACH SVHC: Unknown; Tolerance: 1%; Mounting Technology: Surface Mount; ComponentLink1URL: http://www.vishay.com/; ComponentLink2URL: http://www.vishay.com/docs/20035/dcrcwe3.pdf; ComponentLink2Description: Datasheet; Resistance: 8.06 KOhm; Max Operating Temperature: 155 degC; ComponentLink1Description: Manufacturer URL; Width: 0.5 mm; RoHSCompliant: true; PackageDescription: 2-Pin Surface Mount Device, Body 1 x 0.5 mm; Manufacturer Part Number: CRCW04028K06FKED
footprint RESC1005X40X25ML05T05 (Chip Resistor, 2-Leads, Body 1.05x0.55mm, IPC Low Density)
footprint RESC1005X40X25NL05T05 (Chip Resistor, 2-Leads, Body 1.05x0.55mm, IPC Medium Density)
footprint RESC1005X40X25LL05T05 (Chip Resistor, 2-Leads, Body 1.05x0.55mm, IPC High Density)
pins: 1, 2

## CMP-2002-00377-1
designator R?, comment 2.49K_1%_0402
Manufacturer: Vishay Dale; Part Number: CRCW04022K49FKTD; Manufacturer Part Number: CRCW04022K49FKTD
footprint RESC1005X40X25ML05T05 (Chip Resistor, 2-Leads, Body 1.00x0.50mm, IPC Low Density)
footprint RESC1005X40X25LL05T05 (Chip Resistor, 2-Leads, Body 1.00x0.50mm, IPC High Density)
footprint RESC1005X40X25NL05T05 (Chip Resistor, 2-Leads, Body 1.00x0.50mm, IPC Medium Density)
pins: 1, 2
1 alternate drawing of the same symbol

## CMP-2002-00433-1
designator R?, comment 10K_1%_0402
Part Number: ERJ-2GEJ103X; Manufacturer: Panasonic; Manufacturer Part Number: ERJ-2GEJ103X
footprint RESC1005X40X25ML05T05 (Chip Resistor, 2-Leads, Body 1.00x0.50mm, IPC Low Density)
footprint RESC1005X40X25NL05T05 (Chip Resistor, 2-Leads, Body 1.00x0.50mm, IPC Medium Density)
footprint RESC1005X40X25LL05T05 (Chip Resistor, 2-Leads, Body 1.00x0.50mm, IPC High Density)
pins: 1, 2
1 alternate drawing of the same symbol

## CMP-2002-00605-3
designator R?, comment 100_1%_0402
Chip Resistor, 100 Ohm, +/- 1%, 100 mW, -55 to 155 degC, 0402 (1005 Metric), RoHS, Tape and Reel; Manufacturer: Basic Passives; PartNumber: ERJ-2RKF1000X; Manufacturer: Panasonic; Power Rating: 100 mW; Resistance: 100 Ohm; Voltage Rating: 50 V; Case\/Package: 0402; Width: 0.5 mm; Pins: 2; ComponentLink2Description: Datasheet; PackageReference: 0402; Height: 0.35 mm; Tolerance: 1%; DatasheetVersion: 04/2015; Case Code (Imperial): 0402; Min Operating Temperature: -55 degC; Radiation Hardening: No; Length: 1 mm; Package Quantity: 10000; PackageDescription: 2-Pin Surface Mount Device, Body 1 x 0.5 mm; Mounting Technology: Surface Mount; Case Code (Metric): 1005; Packaging: Tape and Reel; ComponentLink1URL: http://www.panasonic.com/; RoHSCompliant: true; Max Operating Temperature: 155 degC; REACH SVHC: Yes; ComponentLink1Description: Manufacturer URL; ComponentLink2URL: http://industrial.panasonic.com/cdbs/www-data/pdf/RDA0000/AOA0000C86.pdf; Mount: Surface Mount; Manufacturer Part Number: ERJ-2RKF1000X
footprint RESC1005X40X25LL05T05 (Chip Resistor, 2-Leads, Body 1.05x0.55mm, IPC High Density)
footprint RESC1005X40X25ML05T05 (Chip Resistor, 2-Leads, Body 1.05x0.55mm, IPC Low Density)
footprint RESC1005X40X25NL05T05 (Chip Resistor, 2-Leads, Body 1.05x0.55mm, IPC Medium Density)
pins: 1, 2

## CMP-2002-00757-2
designator R?, comment 200_1%_0402
RES SMD 200 OHM 1% 1/10W 0402; Manufacturer: Panasonic; Manufacturer Part Number: ERJ-2RKF2000X; Power Rating: 100mW; Voltage Rating (DC): 50V; Resistance: 200R; Temperature Coefficient: 100ppm/°C; RoHS Compliant: Yes; Packaging: Tape and Reel; Case Code (Metric): 1005; Package Quantity: 1; Contact Plating: Tin; Series: ERJ; Mount: Surface Mount; Lead Free: Lead Free; Min Operating Temperature: -55°C; Number of Terminations: 2; Max Power Dissipation: 100mW; Technology: THICK FILM; Voltage Rating: 50V; Case/Package: 0402; Width: 0.02inch; Termination: SMD/SMT; Military Standard: Not; Height: 0.35mm; Radiation Hardening: No; Resistance Tolerance: 1%; Length: 1mm; REACH SVHC: No SVHC; Construction: Rectangular; Depth: 0.5mm; Features: Automotive AEC-Q200; Resistor Type: Thick Film; Case Code (Imperial): 0402; Tolerance: 1%; Size Code: 0402; Max Operating Temperature: 155°C
footprint FP-ERJ2RK-IPC_A
footprint FP-ERJ2RK-IPC_C
footprint FP-ERJ2RK-MFG
footprint FP-ERJ2RK-IPC_B
pins: 1, 2

## CMP-2002-00996-1
designator R?, comment 56.2K_1%_0402
Part Number: ERJ-2RKF5622X; Manufacturer: Panasonic; Manufacturer Part Number: ERJ-2RKF5622X
footprint RESC1005X40X25LL05T05 (Chip Resistor, 2-Leads, Body 1.00x0.50mm, IPC High Density)
footprint RESC1005X40X25NL05T05 (Chip Resistor, 2-Leads, Body 1.00x0.50mm, IPC Medium Density)
footprint RESC1005X40X25ML05T05 (Chip Resistor, 2-Leads, Body 1.00x0.50mm, IPC Low Density)
pins: 1, 2
1 alternate drawing of the same symbol

## CMP-2002-01154-4
designator R?, comment 4.7K_0402
Chip Resistor, 4.7 KOhm, +/- 1%, 0.1 W, -55 to 155 degC, 0402 (1005 Metric), RoHS, Tape and Reel; PartNumber: ERJ-2RKF4701X; Manufacturer: Panasonic; Voltage Rating: 50 V; Case\/Package: 0402; Power Rating: 100 mW; Height: 0.35 mm; Mounting Technology: Surface Mount; REACH SVHC: Yes; Resistance: 4.7 KOhm; Max Operating Temperature: 155 degC; ComponentLink1Description: Manufacturer URL; ComponentLink2Description: Datasheet; Pins: 2; PackageReference: 0402; Tolerance: 1%; Case Code (Imperial): 0402; Length: 1 mm; PackageDescription: 2-Pin Surface Mount Device, Body 1 x 0.5 mm; RoHSCompliant: true; Package Quantity: 1; Radiation Hardening: No; DatasheetVersion: 04/2015; Width: 0.5 mm; Case Code (Metric): 1005; Mount: Surface Mount; ComponentLink1URL: http://www.panasonic.com/; Min Operating Temperature: -55 degC; Packaging: Cut Tape; ComponentLink2URL: http://industrial.panasonic.com/cdbs/www-data/pdf/RDA0000/AOA0000C86.pdf; Manufacturer Part Number: ERJ-2RKF4701X
footprint RESC1005X40X25LL05T05 (Chip Resistor, 2-Leads, Body 1.05x0.55mm, IPC High Density)
footprint RESC1005X40X25ML05T05 (Chip Resistor, 2-Leads, Body 1.05x0.55mm, IPC Low Density)
footprint RESC1005X40X25NL05T05 (Chip Resistor, 2-Leads, Body 1.05x0.55mm, IPC Medium Density)
pins: 1, 2

## CMP-2002-01614-2
designator R?, comment 40.2K_0.5%_0402
40.2kΩ ±0.5% 0.0625W 1/16W Chip Resistor 0402 (1005 Metric) Thin Film; Manufacturer: Susumu; Manufacturer Part Number: RR0510P-4022-D; Max Power Dissipation: 63mW; Voltage Rating: 25V; Power Rating: 62.5mW; Voltage Rating (DC): 50V; Resistance: 40.2kR; Temperature Coefficient: 25ppm/°C; Max Operating Temperature: 125°C; Series: RR; Number of Terminations: 2; Min Operating Temperature: -55°C; Length: 0.039inch; Lead Free: Lead Free; Case/Package: 0402; Height: 0.016inch; Width: 0.02inch; Case Code (Metric): 1005; RoHS Compliant: Yes; Package Quantity: 1; Packaging: Tape and Reel; Termination: SMD/SMT; Resistor Type: Thin Film; Tolerance: 0.5%; Case Code (Imperial): 0402; Size Code: 0402
footprint FP-RR0510-MFG
footprint FP-RR0510-IPC_B
footprint FP-RR0510-IPC_A
footprint FP-RR0510-IPC_C
pins: 1, 2

## CMP-2002-01772-2
designator R?, comment 0_5%_0402
RESISTOR 0402 JUMPER ZERO OHM; Manufacturer: Yageo; Manufacturer Part Number: AC0402FR-070RL; Voltage Rating: 50V; Temperature Coefficient: 200ppm/°C; Tolerance: 1%; Power Rating: 62.5mW; Resistance: 0R; Min Operating Temperature: -55°C; Termination: SMD/SMT; Case/Package: 0402; Case Code (Imperial): 0402; Packaging: Tape and Reel; Case Code (Metric): 1005; Max Operating Temperature: 155°C; Series: AC
footprint FP-AC0402-0_37-IPC_B
footprint FP-AC0402-0_37-MFG
footprint FP-AC0402-0_37-IPC_A
footprint FP-AC0402-0_37-IPC_C
pins: 1, 2

## CMP-2002-03021-2
designator R?, comment 88.7K_0.5%_0402
RES SMD 88.7K OHM 0.5% 1/16W; Manufacturer: Yageo; Manufacturer Part Number: RT0402DRE0788K7L; Voltage Rating: 50V; Power Rating: 0.063W; Value: 88.7KΩ; Temperature Coefficient: 50 ppm/°C; Tolerance: 0.005; Temperature Range High: +155°C; Composition: Thin Film; ComponentLink2Description: Datasheet; RoHS: TRUE; Category: Res; Ipc Land Pattern Name: RESC10050X30; Octopart: https://octopart.com/rt0402dre0788k7l-yageo-1439224; ComponentLink2URL: http://www.yageo.com/documents/recent/PYu-RT_1-to-0.01_RoHS_L_9.pdf; Digikey Description: RES SMD 88.7K OHM 0.5% 1/16W; Height: 0.35mm; Series: RT; Footprint Url: http://www.yageo.com/exep/pages/download/literatures/PYu-R_Mount_10.pdf; Device Class L2: Resistors; Temperature: -55°C to +155°C; Temperature Range Low: -55°C; Package: RT0402; Device Class L1: Passive Components; Automotive: No; Lead Free: Yes; Device Class L3: Chip SMD Resistors; Resistance: 88.7KΩ
footprint FP-RT0402-MFG
footprint FP-RT0402-IPC_C
footprint FP-RT0402-IPC_B
footprint FP-RT0402-IPC_A
pins: 1, 2

## CMP-2002-03841-1
designator R?, comment 12K_1%_0402
Manufacturer: KOA Speer; Part Number: RK73H1ETTP1202F; Manufacturer Part Number: RK73H1ETTP1202F
footprint RESC1005X40X25ML10T10 (Chip Resistor, 2-Leads, Body 1.00x0.50mm, IPC Low Density)
footprint RESC1005X40X25LL10T10 (Chip Resistor, 2-Leads, Body 1.00x0.50mm, IPC High Density)
footprint RESC1005X40X25NL10T10 (Chip Resistor, 2-Leads, Body 1.00x0.50mm, IPC Medium Density)
pins: 1, 2
1 alternate drawing of the same symbol

## CMP-2002-04187-1
designator R?, comment 10_1%_0402
Part Number: RK73H1ETTP10R0F; Manufacturer: KOA Speer; Manufacturer Part Number: RK73H1ETTP10R0F
footprint RESC1005X40X25LL10T10 (Chip Resistor, 2-Leads, Body 1.00x0.50mm, IPC High Density)
footprint RESC1005X40X25NL10T10 (Chip Resistor, 2-Leads, Body 1.00x0.50mm, IPC Medium Density)
footprint RESC1005X40X25ML10T10 (Chip Resistor, 2-Leads, Body 1.00x0.50mm, IPC Low Density)
pins: 1, 2
1 alternate drawing of the same symbol

## CMP-2002-04448-1
designator R?, comment 49.9_1%_0402
Part Number: RK73H1ETTP49R9F; Manufacturer: KOA Speer; Manufacturer Part Number: RK73H1ETTP49R9F
footprint RESC1005X40X25NL10T10 (Chip Resistor, 2-Leads, Body 1.00x0.50mm, IPC Medium Density)
footprint RESC1005X40X25ML10T10 (Chip Resistor, 2-Leads, Body 1.00x0.50mm, IPC Low Density)
footprint RESC1005X40X25LL10T10 (Chip Resistor, 2-Leads, Body 1.00x0.50mm, IPC High Density)
pins: 1, 2
1 alternate drawing of the same symbol

## CMP-2002-04694-1
designator R?, comment 10K_1%_0402
Manufacturer: Bourns; Part Number: CR0402-FX-1002GLF; Manufacturer Part Number: CR0402-FX-1002GLF
footprint RESC1005X40X25NL10T10 (Chip Resistor, 2-Leads, Body 1.00x0.50mm, IPC Medium Density)
footprint RESC1005X40X25LL10T10 (Chip Resistor, 2-Leads, Body 1.00x0.50mm, IPC High Density)
footprint RESC1005X40X25ML10T10 (Chip Resistor, 2-Leads, Body 1.00x0.50mm, IPC Low Density)
pins: 1, 2
1 alternate drawing of the same symbol

## CMP-2002-05217-1
designator R?, comment 4.7K_1%_0402
Manufacturer: Bourns; Part Number: CR0402-FX-4701GLF; Manufacturer Part Number: CR0402-FX-4701GLF
footprint RESC1005X40X25NL10T10 (Chip Resistor, 2-Leads, Body 1.00x0.50mm, IPC Medium Density)
footprint RESC1005X40X25LL10T10 (Chip Resistor, 2-Leads, Body 1.00x0.50mm, IPC High Density)
footprint RESC1005X40X25ML10T10 (Chip Resistor, 2-Leads, Body 1.00x0.50mm, IPC Low Density)
pins: 1, 2
1 alternate drawing of the same symbol

## CMP-2002-05706-1
designator R?, comment 1M_1%_0402
Manufacturer: TE Connectivity / AMP; Part Number: CRG0402F1M0; Manufacturer: TE Connectivity; Manufacturer Part Number: CRG0402F1M0
footprint RESC1005X40X25NL10T10 (Chip Resistor, 2-Leads, Body 1.00x0.50mm, IPC Medium Density)
footprint RESC1005X40X25LL10T10 (Chip Resistor, 2-Leads, Body 1.00x0.50mm, IPC High Density)
footprint RESC1005X40X25ML10T10 (Chip Resistor, 2-Leads, Body 1.00x0.50mm, IPC Low Density)
pins: 1, 2
1 alternate drawing of the same symbol

## CMP-2002-05710-1
designator R?, comment DNI_20_1%_0402  (no BOM)
Manufacturer: TE Connectivity / AMP; Part Number: CRG0402F20R; Manufacturer: TE Connectivity; Manufacturer Part Number: CRG0402F20R
footprint RESC1005X40X25NL10T10 (Chip Resistor, 2-Leads, Body 1.00x0.50mm, IPC Medium Density)
footprint RESC1005X40X25LL10T10 (Chip Resistor, 2-Leads, Body 1.00x0.50mm, IPC High Density)
footprint RESC1005X40X25ML10T10 (Chip Resistor, 2-Leads, Body 1.00x0.50mm, IPC Low Density)
pins: 1, 2
1 alternate drawing of the same symbol